# Altium footprint library ST-LINK_Header.PcbLib: 1 footprints
Each footprint in its own frame and in the unit in brackets; x right, y up, seen from the top. Pads: shape width x height; smd on the part's side, far side on the other; paste and mask are expansions set on the pad; w line width, h text height; cw(c..) or ccw(c..) is an arc to the next point about the centre after c.
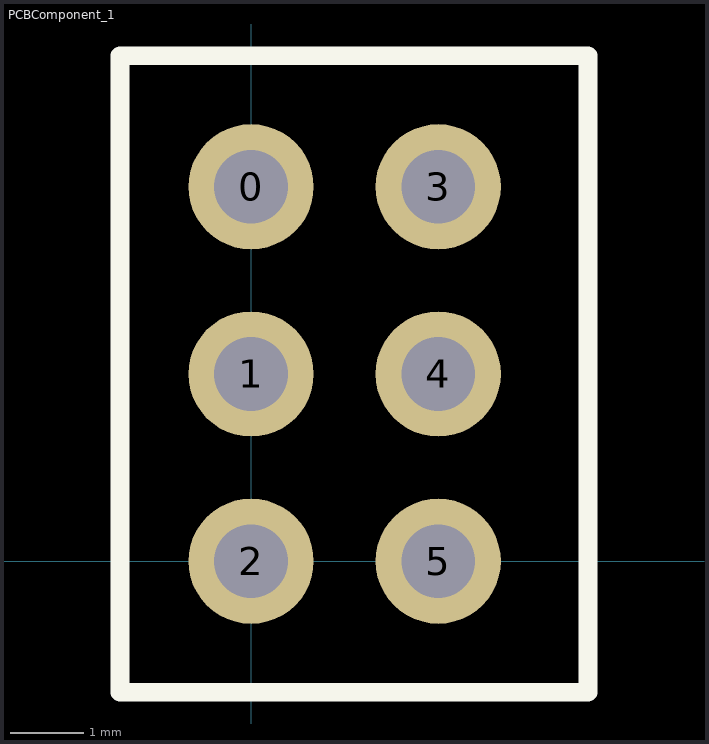
[diagram p0: the footprint, top view; thin cyan lines are the x and y axes]

## PCBComponent_1 [mm]
pads (6):
  round 1.7 hole 1: 0(0,5.08) 1(0,2.54) 2(0,0) 3(2.54,5.08) 4(2.54,2.54) 5(2.54,0)
Top Overlay:
  lines w0.254: -1.778,-1.778 4.572,-1.778 4.572,6.858 -1.778,6.858 -1.778,-1.778